# Altium footprint library Component.PcbLib: 79 footprints (part 4 of 5)
Each footprint in its own frame and in the unit in brackets; x right, y up, seen from the top. Pads: shape width x height; smd on the part's side, far side on the other; paste and mask are expansions set on the pad; w line width, h text height; cw(c..) or ccw(c..) is an arc to the next point about the centre after c.
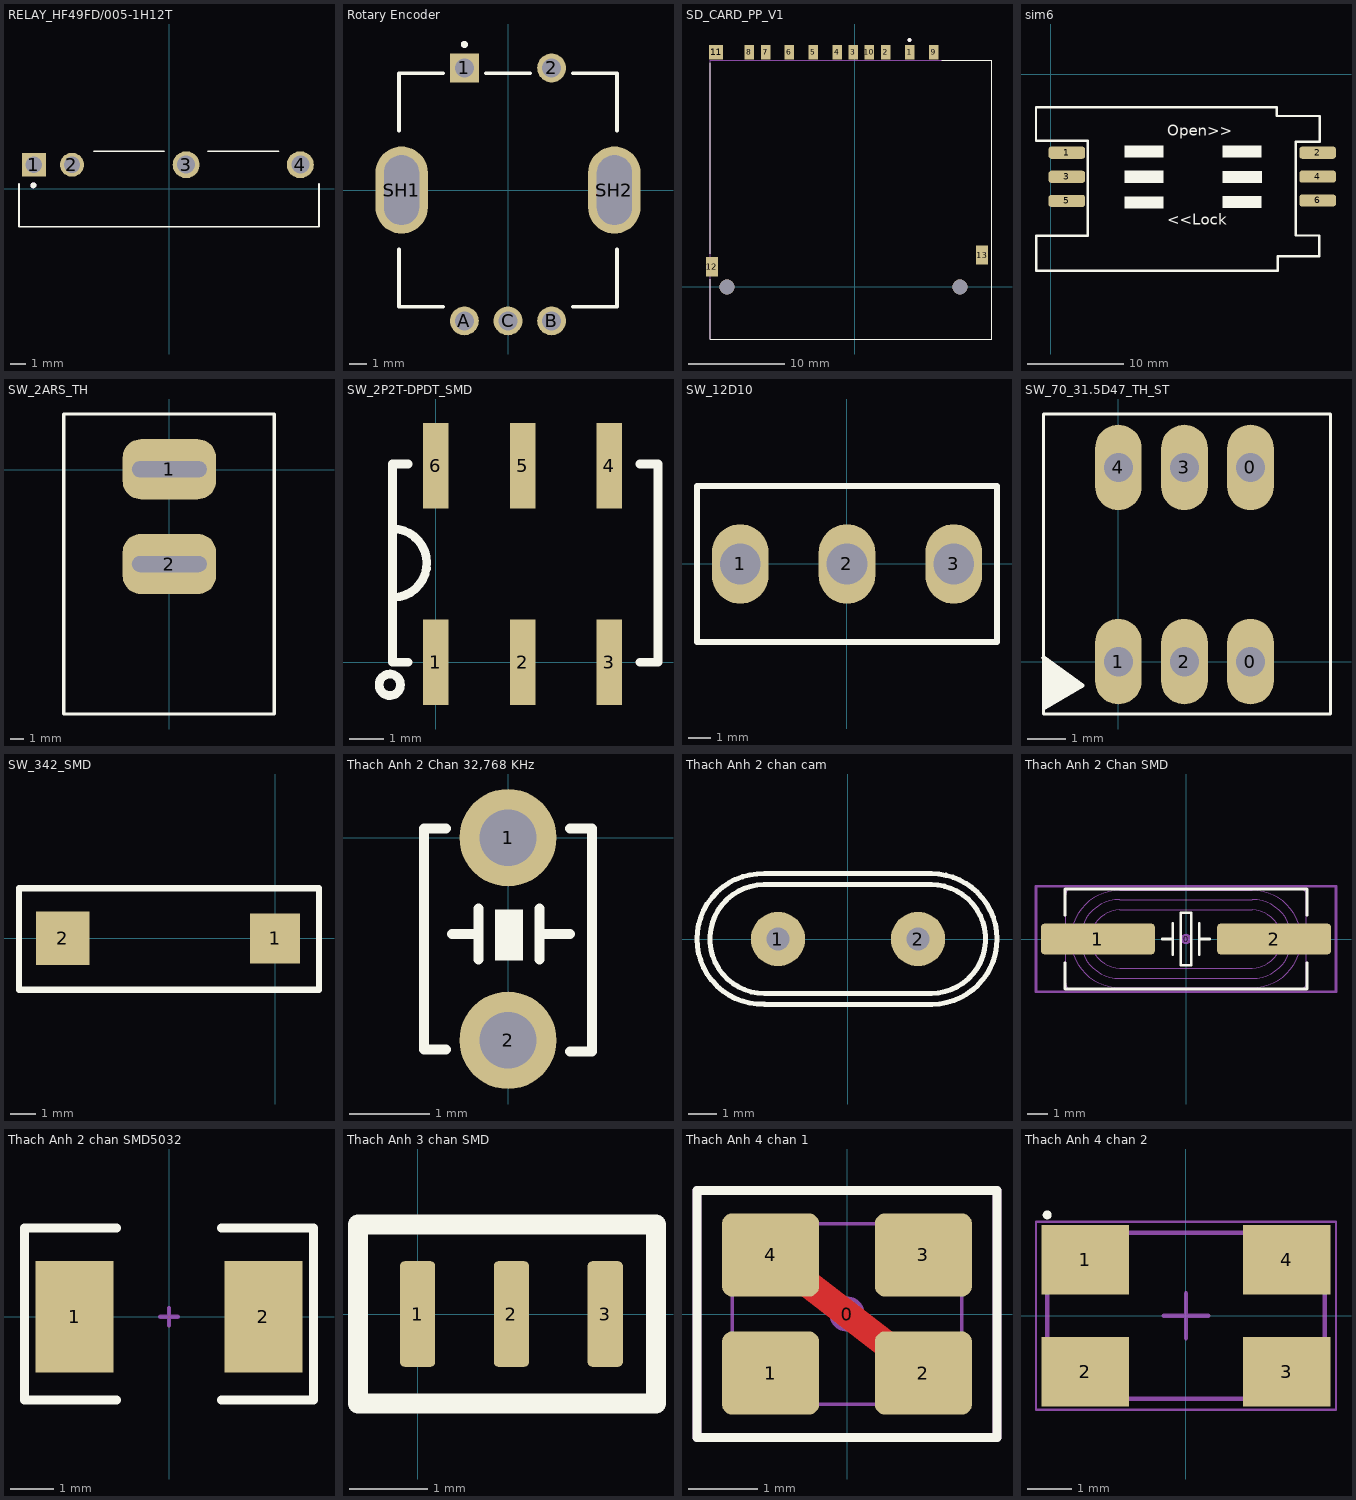
[diagram p3: the footprints below, top view; thin cyan lines are the x and y axes]

## RELAY_HF49FD/005-1H12T [mm]
pads (4):
  rect 1.6x1.6 hole 1.1: 1(-9.03,1.6)
  round 1.6 hole 1.1: 2(-6.49,1.6)
  round 1.8 hole 1.2: 3(1.13,1.6) 4(8.75,1.6)
Top Overlay:
  circle w0.2: c-9.068,0.229 r0.1
  lines w0.127: -10.028,0.33 -10.028,-2.54 10,-2.54 10,0.33 ; -5.03,2.5 -0.33,2.5 ; 2.59,2.5 7.29,2.5
Mechanical 13:
  circle w0.2: c-9.068,0.229 r0.1
3D body "HF49FD_005-1H12.stp": height 12.63, standoff -3.37, extent -10,-2.501 10,2.5

## Rotary Encoder [mm]
pads (7):
  rect 1.65x1.65 hole 1.1 mask+0.102: 1(-2.5,7)
  round 1.65 hole 1.1 mask+0.102: 2(2.5,7) A(-2.5,-7.5) B(2.5,-7.5) C(0,-7.5)
  oval 3x5 hole 2 slot 4 at 90 deg mask+0.102: SH1(-6.1,0) SH2(6.1,0)
Top Overlay:
  circle w0.2: c-2.5,8.35 r0.1
  lines w0.203: -6.25,-3.4 -6.25,-6.7 -3.7,-6.7 ; -6.25,3.4 -6.25,6.7 -3.7,6.7 ; -1.272,6.7 1.278,6.7 ; 3.7,-6.7 6.25,-6.7 6.25,-3.4 ; 3.7,6.7 6.25,6.7 6.25,3.4
Mechanical 13:
  circle w0.2: c-2.5,8.35 r0.1
3D body "pec11r-4215k-s0024.stp": height 23.1, standoff -2.1, extent -7,-7.7 7,7.2

## SD_CARD_PP_V1 [mm]
height 2.75
pads (15):
  rect 1x1.5 smd: 1(5.7,24.31) 2(3.2,24.31) 3(-0.15,24.31) 4(-1.8,24.31) 5(-4.3,24.31) 6(-6.8,24.31) 7(-9.23,24.31) 8(-10.93,24.31) 9(8.2,24.31) 10(1.5,24.31)
  rect 1.45x1.5 smd: 11(-14.38,24.31)
  rect 1.2x2 smd: 12(-14.8,2.1) 13(13.2,3.3)
  round 1.55 hole 1.55 unplated: ""(-13.25,0) ""(10.9,0)
Top Overlay:
  circle w0.2: c5.69,25.603 r0.1
  lines w0.127: -15,0.78 -15,-5.4 14.2,-5.4 14.2,23.5 9.02,23.5 ; -15,3.42 -15,23.24
Mechanical 13:
  circle w0.2: c5.69,25.603 r0.1
  lines w0.127: -15,-5.4 14.2,-5.4 14.2,23.5 -15,23.5 -15,-5.4
3D body "step_temp.STEP": height 2.75, standoff -0.6, extent -15,-5.4 14.2,24.66

## sim6 [mil]
pads (6):
  rrect50% 150x50 smd: 1(65,-320) 2(1088.62,-320) 3(65,-418.43) 4(1088.62,-417.5) 5(65,-516.85) 6(1088.62,-515)
Top Overlay:
  rectangle: 300,-340 460,-290
  rectangle: 299.84,-443.31 459.84,-393.31
  rectangle: 299.84,-548.03 459.84,-498.03
  rectangle: 700,-340 860,-290
  rectangle: 700.79,-444.49 860.79,-394.49
  rectangle: 700,-545.67 860,-495.67
  lines w10: -61.02,-271.26 150,-271.26 150,-659.06 -60.63,-659.06 -60.63,-801.57 925.2,-801.57 925.2,-742.91 1095.28,-742.91 1095.28,-657.87 1000,-657.87 1000,-274.8 1097.24,-274.8 1097.24,-170.08 921.26,-170.08 921.26,-134.65 -61.02,-134.65 -61.02,-271.26
  text "Open>>" at 475,-250 h45
  text "<<Lock" at 475,-615 h45
3D body "User Library-SIM5060-6-0-26-01-A.STEP": height 102.97, standoff -26.96, extent -66.14,-806.69 1100.79,-129.53

## SW_2ARS_TH [mm] "CASE: TH"
height 13.69
pads (2):
  rrect60% 7x4.5 hole 1.2 slot 5.6 at 0 deg mask+0.076: 1(0.025,0.051) 2(0.025,-7.049)
Top Overlay:
  lines w0.254: -7.874,-18.288 7.874,-18.288 7.874,4.191 -0.809,4.191 -7.874,4.191 -7.874,-18.288
3D body "4710368_prasa1-16f-bb0bw.stp": height 17.81, standoff -6.9, extent -7.474,-17.899 7.526,3.801

## SW_2P2T-DPDT_SMD [mm] "PCB Mountable Slide Switch. Double Pole, Double Throw = DPDT"
height 5.5
pads (6):
  rect 0.75x2.5 smd: 1(0,0) 2(2.54,0) 3(5.08,0) 4(5.08,5.75) 5(2.54,5.75) 6(0,5.75)
Top Overlay:
  circle w0.254: c-1.346,-0.66 r0.314
  lines w0.254: -1.27,3.907 cw(c-1.27,2.9) -1.235,1.893 ; -0.813,0 -1.27,0 -1.27,5.8 -0.813,5.8 ; 5.969,0 6.502,0 6.502,5.8 5.969,5.8
3D body "User Library-CKSW-GT21MSCBE.step": height 10.92, standoff 0, extent -0.965,-0.614 6.045,6.426

## SW_12D10 [mm]
pads (3):
  oval 2.5x3.5 hole 1.8: 1(-4.7,0) 2(0,0) 3(4.7,0)
Top Overlay:
  lines w0.254: -6.604,-3.429 -6.604,3.429 6.604,3.429 6.604,-3.429 -6.604,-3.429
3D body "SS-12D10L4.STEP": height 10.61, standoff -6.49, extent -6.5,-3.4 6.5,3.4

## SW_70_31.5D47_TH_ST [mm] "CASE: TH"
height 12
pads (6):
  oval 1.2x2.2 hole 0.75: 0(3.4,0) 0(3.4,5) 1(0,0) 2(1.7,0) 3(1.7,5) 4(0,5)
Top Overlay:
  region: -1.981,0.102 -1.93,0.051 -1.93,-1.143 -1.524,-0.965 -0.965,-0.584
  lines w0.076: -1.93,-1.346 5.461,-1.346 5.461,6.375 -1.93,6.375 -1.93,-1.346
  lines w0.127: -1.915,0.097 -0.94,-0.61 -1.902,-1.173
3D body "Toggle Button (7 x 7 x 12mm) - Latching.stp": height 13.54, standoff -3.23, extent -1.74,-0.914 5.296,5.995

## SW_342_SMD [mm] "CASE: SMD"
height 2.5
pads (2):
  rect 2x2 smd: 1(0,0)
  rect 2.15x2.15 smd: 2(-8.5,0)
Top Overlay:
  lines w0.254: -10.25,-2.057 -10.25,2 1.75,2 1.75,-2.057 -10.25,-2.057
3D body: height 2.4, standoff 0.1, extent -7.171,-1.793 -1.171,1.707

## Thach Anh 2 Chan 32,768 KHz [mil]
pads (2):
  round 48 hole 28: 1(0,0) 2(0,-100)
Top Overlay:
  rectangle: -6.5,-60.5 7.5,-35.5
  lines w5: -30.5,-104.5 -41.5,-104.5 -41.5,4.5 -30.5,4.5 ; -27.5,-47.5 -14.5,-47.5 ; -14.5,-60 -14.5,-35 ; 15.5,-60 15.5,-35 ; 15.5,-47.5 30.5,-47.5 ; 30.5,-105.5 41.5,-105.5 41.5,4.5 30.5,4.5
3D body "User Library-R38_100mils.STEP": height 66.34, standoff -16.34, extent -119.57,-104.5 321.37,5.73

## Thach Anh 2 chan cam [mm]
pads (2):
  round 1.905 hole 0.8: 1(-2.45,0) 2(2.45,0)
Top Overlay:
  lines w0.178: -2.939,1.905 ccw(c-2.927,0) -2.921,-1.905 2.921,-1.905 ccw(c2.908,0) 2.903,1.905 ; -2.922,-2.283 cw(c-2.998,0.001) -2.921,2.286 2.921,2.286 cw(c2.928,0) 2.943,-2.286 ; -2.921,-2.286 2.921,-2.286 ; -2.921,1.905 2.921,1.905
3D body "SW3dPS-HP49US.STEP": height 3.5, standoff -4, extent -5.675,-2.364 5.675,2.286

## Thach Anh 2 Chan SMD [mm] "SMD Crystal HC49/US-SM package"
height 4.3
pads (3):
  round 0.508 on Mech15: 0(0,0)
  rrect25% 5.5x1.5 smd: 1(-4.25,0) 2(4.25,0)
Top Overlay:
  lines w0.127: -5.842,-1.143 -5.842,-2.413 5.842,-2.413 5.842,-1.143 ; -5.842,1.143 -5.842,2.413 5.842,2.413 5.842,1.143 ; -1.143,0 -0.635,0 ; -0.635,-0.762 -0.635,0.762 ; 0.635,-0.762 0.635,0.762 ; 0.635,0 1.143,0 ; -0.254,-1.27 0.254,-1.27 0.254,1.27 -0.254,1.27 -0.254,-1.27
Mechanical 13:
  lines w0.05: -5.8,-0.45 -6.4,-0.45 -6.4,0.45 -5.8,0.45 ; 5.8,-0.45 6.4,-0.45 6.4,0.45 5.8,0.45 ; -5.8,-2.165 ccw(c-5.55,-2.165) -5.55,-2.415 5.55,-2.415 ccw(c5.55,-2.165) 5.8,-2.165 5.8,2.165 ccw(c5.55,2.165) 5.55,2.415 -5.55,2.415 ccw(c-5.55,2.165) -5.8,2.165 -5.8,-2.165 ; -3.2,-2.35 cw(c-3.2,0) -3.2,2.35 3.2,2.35 cw(c3.2,0) 3.2,-2.35 -3.2,-2.35 ; -3.2,-1.9 cw(c-3.2,0) -3.2,1.9 3.2,1.9 cw(c3.2,0) 3.2,-1.9 -3.2,-1.9 ; -3.2,-1.4 cw(c-3.2,0) -3.2,1.4 3.2,1.4 cw(c3.2,0) 3.2,-1.4 -3.2,-1.4
Mechanical 15:
  lines w0.127: -7.239,-2.54 7.239,-2.54 7.239,2.54 -7.239,2.54 -7.239,-2.54
3D body "Crystal HC49_US-SM.STEP": height 4.29, standoff -0.01, extent -6.4,-2.415 6.4,2.415

## Thach Anh 2 chan SMD5032 [mil] "DO-214-AA/SMB; 2 C-Bend Leads; Body 5.3 x 3.6 mm, inc. leads (LxW)"
height 100
pads (2):
  rect 70x100 smd: 1(-85,0) 2(85,0)
Top Overlay:
  lines w7.87: -47.24,-75 -130,-75 -130,80 -47.24,80 ; 47.24,-75 130,-75 130,80 47.24,80
Mechanical 1:
  lines w3.94: -7.87,0 7.87,0 ; 0,-7.87 0,7.87
3D body "User Library-ABM3-1.STEP": height 51.18, standoff 0, extent -98.42,-62.99 98.43,63

## Thach Anh 3 chan SMD [mm] "SMD Crystal CMR309T package"
height 3.1
pads (3):
  rrect25% 0.45x1.35 smd: 1(0,0) 2(1.2,0) 3(2.4,0)
Top Overlay:
  lines w0.254: -0.762,-1.143 -0.762,1.143 3.048,1.143 3.048,-1.143 -0.762,-1.143
3D body "SW3dPS-CSTCE_V-1.STEP": height 1.02, standoff -0.09, extent -0.411,-0.627 2.789,0.673

## Thach Anh 4 chan 1 [mm] "SMD Crystal 4-lead leadless package"
height 0.8
pads (5):
  round 0.508 on Mech15: 0(0,0)
  rrect25% 1.4x1.2 smd: 1(-1.1,-0.85) 2(1.1,-0.85) 3(1.1,0.85) 4(-1.1,0.85)
Top Layer:
  lines w0.4: -1.1,0.85 1.1,-0.85
Top Overlay:
  lines w0.127: -2.159,-1.778 -2.159,1.778 2.159,1.778 2.159,-1.778 -2.159,-1.778
Mechanical 13:
  lines w0.05: -1.65,-1.143 -1.493,-1.3 1.493,-1.3 1.65,-1.143 1.65,1.144 1.494,1.3 -1.493,1.3 -1.65,1.143 -1.65,-1.143
Mechanical 15:
  lines w0.127: -2.159,-1.778 2.159,-1.778 2.159,1.778 -2.159,1.778 -2.159,-1.778
3D body "Crystal TXC Corp 7M series.STEP": height 0.8, standoff 0, extent -1.65,-1.3 1.65,1.3

## Thach Anh 4 chan 2 [mm]
height 1.1
pads (4):
  rect 1.95x1.55 smd: 1(-2.25,1.25) 2(-2.25,-1.25) 3(2.25,-1.25) 4(2.25,1.25)
Top Overlay:
  circle w0.1: c-3.1,2.25 r0.05
Mechanical 1:
  lines w0.1: -3.1,-1.85 3.1,-1.85 3.1,1.85 -3.1,1.85 -3.1,-1.85
Mechanical 15:
  lines w0.05: -3.35,-2.1 3.35,-2.1 3.35,2.1 -3.35,2.1 -3.35,-2.1
  lines w0.1: -0.5,0 0.5,0 ; 0,-0.5 0,0.5
3D body "DFN3127P600-8N.step": height 1.1, standoff 0, extent -3.1,-1.95 3.9,1.95